# Altium schematic symbol library AudioPartLib.SchLib: 58 symbols
Pins are listed as number, name and electrical type; pins without a type are passive.

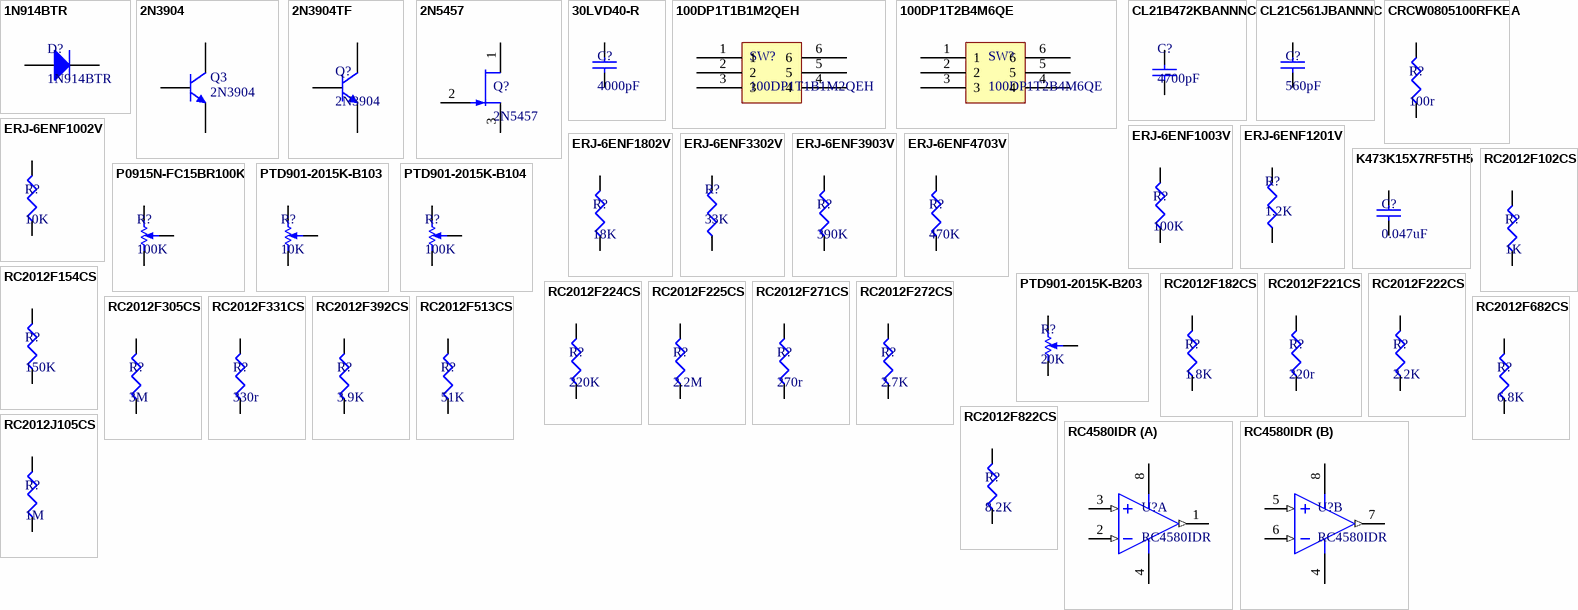
[diagram p0: symbols 1N914BTR to RC4580IDR]

## 1N914BTR
designator D?
DIODE GEN PURP 100V 200MA DO35; MFR: Fairchild-Semiconductor; Pin Count #: 2; Type: Throughhole Diode; Lead-Free ?: Yes; Designer: Adam Vadala-Roth; MFR #: 1N914BTR; Status: Active; Mounting: SMT/SMD; Datasheet: https://www.fairchildsemi.com/datasheets/1N/1N914.pdf; Height: 4mm; Tolerance: N/A; Cost: 0.009 @ 1000; Voltage: 100V; Date Created: 8 May 2016; Last Modified: 8 May 2016; Value: 1N914BTR
footprint DO-35 (Diode, Axial; Body 3.8 x 1.9 mm (LxDia. max), Lead Dia. 0.53 mm (max))
pins: 1 A, 2 K

## 2N3904
designator Q3
NPN General Purpose Amplifier; Published: 8-Jun-2000; LatestRevisionDate: 15-Jan-2003; LatestRevisionNote: PCB Footprint 'BCY-W3/D4.7' replaced; DatasheetVersion: 1997; PackageVersion: Sep-1998; PackageReference: TO-92A; Publisher: Altium Limited; PackageDescription: TO, Flat Index; 3 In-Line, Axial Leads; Body Dia. 4.5mm; Leads 0.51 x 0.48 mm (max); ComponentLink1Description: Manufacturer Link; ComponentLink1URL: http://www.fairchildsemi.com/; ComponentLink2Description: Datasheet; ComponentLink2URL: http://www.fairchildsemi.com/ds/2N%2F2N3904.pdf
footprint TO-92A (TO, Flat Index; 3 In-Line, Axial Leads; Body Dia. 4.5mm; Leads 0.51 x 0.48 mm (max))
simulation model 2N3904 (NPN)
signal-integrity model 2N3904
pins: 1 E, 2 B, 3 C

## 2N3904TF
designator Q?, comment 2N3904
TRANS NPN 40V 0.2A TO-92; MFR #: 2N3904TF; MFR: Fairchild-Semiconductor; Pin Count #: 2; Type: NPN Transistor; Lead-Free ?: Yes; Designer: Adam Vadala-Roth; Status: Active; Mounting: SMT/SMD; Datasheet: https://www.fairchildsemi.com/datasheets/MM/MMBT3904.pdf; Height: 5mm; Tolerance: N/A; Cost: 0.03468 @ 2000; Voltage: 40V; Date Created: 9 May 2016; Last Modified: 9 May 2016; Value: 2N3904
footprint TO-92A (TO, Flat Index; 3 In-Line, Axial Leads; Body Dia. 4.5mm; Leads 0.51 x 0.48 mm (max))
pins: 1 E, 2 B, 3 C

## 2N5457
designator Q?
JFET N-CH 25V 0.31W TO-92; MFR: Central-Semiconductor-Corp; Pin Count #: 3; Type: JFET Transistor; Lead-Free ?: Yes; Designer: Adam Vadala-Roth; MFR #: 2N5457; Status: Active; Mounting: Throughhole; Datasheet: http://www.centralsemi.com/PDFs/products/2N5457-5459.PDF; Height: 10mm; Tolerance: N/A; Cost: 1.13100 @ 1000; Voltage: 25V; Date Created: 10 May 2016; Last Modified: 10 May 2016
footprint TO-92A (TO, Flat Index; 3 In-Line, Axial Leads; Body Dia. 4.5mm; Leads 0.51 x 0.48 mm (max))
pins: 1 D, 2 G, 3 S

## 30LVD40-R
designator C?, comment 4000pF
Ceramic Disc Capacitors .25LS 4000PF 300V 20%; MFR #: 30LVD40-R; MFR: Vishay Cera-Mite; Pin Count #: 2; Type: Ceramic Capacitor THroughhole; Lead-Free ?: Yes; Designer: Adam Vadala-Roth; Status: Active; Mounting: SMT/SMD; Datasheet: http://www.mouser.com/ds/2/427/30lv-239712.pdf; Height: 13.5mm; Tolerance: 20%; Cost: 0.855 @ 1000; Voltage: 300V; Date Created: 9 May 2016; Last Modified: 9 May 2016; Value: 4000pF
footprint 30LVD40-R (Ceramic Disc Capacitor Throughhole)
pins: 1, 2

## 100DP1T1B1M2QEH
designator SW?
SWITCH TOGGLE DPDT 5A 120V; MFR: E-Switch; Pin Count #: 6; Lead-Free ?: Yes; Designer: Adam Vadala-Roth; MFR #: 100DP1T1B1M2QEH; Status: Active; Mounting: Throughhole / PCB Vertical Mount; Datasheet: https://www.e-switch.com/system/asset/product_line/data_sheet/129/100.pdf; Height: 11mm; Tolerance: N/A; Cost: 1.65060 @ 1000; Type: Toggle Switch; Voltage: 120V; Date Created: 9 May 2016; Last Modified: 9 May 2016
footprint 100DP1T1B1M2QEH
pins: 1, 2, 3, 4, 5, 6

## 100DP1T2B4M6QE
designator SW?
SWITCH TOGGLE DPDT 5A 120V; MFR: E-Switch; Pin Count #: 6; Lead-Free ?: Yes; Designer: Adam Vadala-Roth; MFR #: 100DP1T2B4M6QE; Status: Active; Mounting: Through Hole; Datasheet: http://spec_sheets.e-switch.com/specs/T121043.pdf; Height: 11.43; Tolerance: N/A; Cost: 2.12800 @ 1000; Type: DPDT Toggle Switch 120V; Voltage: 120V; Date Created: 10 May 2016; Last Modified: 10 May 2016; Value: 100DP1T2B4M6QE
footprint 100DP1T2B4M6QE (100DP1T2B4M6QE DPDT Toggle Switch)
pins: 1, 2, 3, 4, 5, 6

## CL21B472KBANNNC
designator C?, comment 4700pF
4700pF ±10% 50V X7R Ceramic Capacitor -55°C ~ 125°C Surface Mount, MLCC 0805 (2012 Metric) 0.079" L x 0.049" W (2.00mm x 1.25mm); MFR #: CL21B472KBANNNC; MFR: Samsung-Electro-Mechanics-America,-Inc.; Pin Count #: 2; Type: Ceramic Capacitor Chip; Lead-Free ?: Yes; Voltage: 50VDC; Designer: Adam Vadala-Roth; Status: Active; Mounting: SMT/SMD; Datasheet: https://media.digikey.com/pdf/Data%20Sheets/Samsung%20PDFs/CL_Series_MLCC_ds.pdf; Height: 0.75mm; Tolerance: 10%; Cost: 0.01170 @ 1000; Date Created: 10 May 2016; Last Modified: 10 May 2016; Value: 4700pF
footprint C0805
pins: 1, 2

## CL21C561JBANNNC
designator C?, comment 560pF
560pF ±5% 50V C0G, NP0 Ceramic Capacitor -55°C ~ 125°C Surface Mount, MLCC 0805 (2012 Metric) 0.079" L x 0.049" W (2.00mm x 1.25mm; MFR #: CL21C561JBANNNC; MFR: Samsung-Electro-Mechanics-America,-Inc.; Pin Count #: 2; Type: Ceramic Capacitor 0805; Lead-Free ?: Yes; Designer: Adam Vadala-Roth; Status: Active; Mounting: SMT/SMD; Datasheet: http://www.samsungsem.com/kr/support/product-search/mlcc/__icsFiles/afieldfile/2015/06/03/CL21C561JBANNNC.pdf; Height: 0.75mm; Tolerance: 5%; Cost: 0.02574; Voltage: 50V; Date Created: 9 May 2016; Last Modified: 9 May 2016; Value: 560pF
footprint C0805
pins: 1, 2

## CRCW0805100RFKEA
designator R?, comment 100r
RES SMD 100 OHM 1% 1/8W 0805; MFR #: CRCW0805100RFKEA; MFR: Vishay-Dale; Pin Count #: 2; Lead-Free ?: Yes; Designer: Adam Vadala-Roth; Status: Active; Mounting: SMT/SMD; Datasheet: https://www.vishay.com/docs/20035/dcrcwe3.pdf; Height: 0.5mm; Tolerance: 1%; Cost: 0.00729 @ 1000; Type: Chip Resistor 0805; Voltage: 1/8W; Date Created: 9 May 2016; Last Modified: 9 May 2016; Value: 100r
footprint R0805
pins: 1, 2

## ERJ-6ENF1002V
designator R?, comment 10K
RES SMD 10K OHM 1% 1/8W 0805; MFR #: ERJ-6ENF1002V; MFR: Panasonic-Electronic-Components; Pin Count #: 2; Lead-Free ?: Yes; Designer: Adam Vadala-Roth; Status: Active; Mounting: SMT/SMD; Datasheet: http://industrial.panasonic.com/www-cgi/jvcr13pz.cgi?E+PZ+3+AOA0002+ERJ6ENF1002V+7+WW; Height: 0.7mm; Tolerance: 1%; Cost: 0.00729 @ 1000; Type: Chip Resistor 0805; Voltage: 1/8W; Date Created: 8 May 2016; Last Modified: 8 May 2016; Value: 10K
footprint R0805
pins: 1, 2

## ERJ-6ENF1003V
designator R?, comment 100K
RES SMD 100K OHM 1% 1/8W 0805; MFR #: ERJ-6ENF1003V; MFR: Panasonic-Electronic-Components; Pin Count #: 2; Lead-Free ?: Yes; Designer: Adam Vadala-Roth; Status: Active; Mounting: SMT/SMD; Datasheet: http://industrial.panasonic.com/www-cgi/jvcr13pz.cgi?E+PZ+3+AOA0002+ERJ6ENF1003V+7+WW; Height: 0.7mm; Tolerance: 1%; Cost: 0.00729 @ 1000; Type: Chip Resistor; Voltage: 1/8W; Date Created: 9 May 2016; Last Modified: 9 May 2016; Value: 100K
footprint R0805
pins: 1, 2

## ERJ-6ENF1201V
designator R?, comment 1.2K
RES SMD 1.2K OHM 1% 1/8W 0805; MFR #: ERJ-6ENF1201V; MFR: Panasonic-Electronic-Components; Pin Count #: 2; Lead-Free ?: Yes; Designer: Adam Vadala-Roth; Status: Active; Mounting: SMT/SMD; Datasheet: http://industrial.panasonic.com/www-cgi/jvcr13pz.cgi?E+PZ+3+AOA0002+ERJ6ENF1201V+7+WW; Height: 0.7mm; Tolerance: 1%; Cost: 0.00729 @ 1000; Type: Chip Resistor 0805; Voltage: 1/8W; Date Created: 8 May 2016; Last Modified: 8 May 2016; Value: 1.2K
footprint R0805
pins: 1, 2

## ERJ-6ENF1802V
designator R?, comment 18K
RES SMD 18K OHM 1% 1/8W 0805; MFR #: ERJ-6ENF1802V; MFR: Panasonic-Electronic-Components; Pin Count #: 2; Lead-Free ?: Yes; Designer: Adam Vadala-Roth; Status: Active; Mounting: SMT/SMD; Datasheet: http://industrial.panasonic.com/www-cgi/jvcr13pz.cgi?E+PZ+3+AOA0002+ERJ6ENF1802V+7+WW; Height: 0.7mm; Tolerance: 1%; Cost: 0.00729 @ 1000; Type: Chip Resistor 0805; Voltage: 1/8W; Date Created: 8 May 2016; Last Modified: 8 May 2016; Value: 18K
footprint R0805
pins: 1, 2

## ERJ-6ENF3302V
designator R?, comment 33K
RES SMD 33K OHM 1% 1/8W 0805; MFR #: ERJ-6ENF3302V; MFR: Panasonic-Electronic-Components; Pin Count #: 2; Lead-Free ?: Yes; Designer: Adam Vadala-Roth; Status: Active; Mounting: SMT/SMD; Datasheet: http://industrial.panasonic.com/www-cgi/jvcr13pz.cgi?E+PZ+3+AOA0002+ERJ6ENF3302V+7+WW; Height: 0.7mm; Tolerance: 1%; Cost: 0.00729; Type: Chip Resistor 0805; Voltage: 1/8W; Date Created: 9 May 2016; Last Modified: 9 May 2016; Value: 33K
footprint R0805
pins: 1, 2

## ERJ-6ENF3903V
designator R?, comment 390K
RES SMD 390K OHM 1% 1/8W 0805; MFR #: ERJ-6ENF3903V; MFR: Panasonic-Electronic-Components; Pin Count #: 2; Lead-Free ?: Yes; Designer: Adam Vadala-Roth; Status: Active; Mounting: SMT/SMD; Datasheet: http://industrial.panasonic.com/www-cgi/jvcr13pz.cgi?E+PZ+3+AOA0002+ERJ6ENF3903V+7+WW; Height: 0.7mm; Tolerance: 1%; Cost: 0.00729 @ 1000; Type: Chip Resistor 0805; Voltage: 1/8W; Date Created: 8 May 2016; Last Modified: 8 May 2016; Value: 390K
footprint R0805
pins: 1, 2

## ERJ-6ENF4703V
designator R?, comment 470K
RES SMD 470K OHM 1% 1/8W 0805; MFR #: ERJ-6ENF4703V; MFR: Panasonic-Electronic-Components; Pin Count #: 2; Lead-Free ?: Yes; Designer: Adam Vadala-Roth; Status: Active; Mounting: SMT/SMD; Datasheet: http://industrial.panasonic.com/www-cgi/jvcr13pz.cgi?E+PZ+3+AOA0002+ERJ6ENF4703V+7+WW; Height: 0.7mm; Tolerance: 1%; Cost: 0.00729	 @ 1000; Type: Chip Resistor 0805; Voltage: 1/8W; Date Created: 9 May 2016; Last Modified: 9 May 2016; Value: 470K
footprint R0805
pins: 1, 2

## K473K15X7RF5TH5
designator C?, comment 0.047uF
0.047µF ±10% 50V X7R Ceramic Capacitor -55°C ~ 125°C Through Hole Radial 0.157" L x 0.098" W (4.00mm x 2.50mm); MFR #: K473K15X7RF5TH5; MFR: Vishay BC Components; Pin Count #: 2; Type: Ceramic dipped Capacitor K series 5mm lead spacing; Lead-Free ?: Yes; Designer: Adam Vadala-Roth; Status: Active; Mounting: Through Hole; Datasheet: http://www.vishay.com/docs/45171/kseries.pdf; Height: 6.54mm; Tolerance: 10%; Cost: 0.04692 @ 1000; Voltage: 50V; Date Created: 11 May 2016; Last Modified: 11 May 2016; Value: 0.047uF
footprint K473K15X7RF5TH5 (K473K15X7RF5TH5 Dipped Ceramic Cap VIshay BC Components)
pins: 1, 2

## P0915N-FC15BR100K
designator R?, comment 100K
POT 100K OHM 1/20W PLASTIC LIN; MFR #: P0915N-FC15BR100K; MFR: TT-Electronics-BI; Pin Count #: 2; Tolerance: 1%; Lead-Free ?: Yes; Designer: Adam Vadala-Roth; Status: Active; Mounting: SMT/SMD; Datasheet: http://www.bitechnologies.com/pdfs/p09x.pdf; Height: 22.6mm; Cost: 0.50540 @ 1000; Type: Potentiometer PCB Mounted Vertical; Voltage: 1/20W; Date Created: 9 May 2016; Last Modified: 9 May 2016; Value: 100K
footprint P0915N-FC15BR100K (Vertical PCB Mounted Potentiometer Single Gang)
pins: 1, 2, 3

## PTD901-2015K-B103
designator R?, comment 10K
POT 10K OHM 1/20W CARBON LINEAR; MFR #: PTD901-2015K-B103; MFR: Bourns Inc.; Pin Count #: 3; Tolerance: 20%; Lead-Free ?: Yes; Designer: Adam Vadala-Roth; Status: Active; Mounting: Through Hole; Datasheet: http://www.bourns.com/docs/Product-Datasheets/PTD90.pdf; Height: 11mm; Cost: 0.91800	 @ 1000; Type: Throughhole Potentiometer; Voltage: 1/20W; Date Created: 10 May 2016; Last Modified: 10 May 2016; Value: 10K
footprint BOURNS_PTD90SERIES_POT (Bourns Inc PTD90 Series Potentiometers, throughhole right angle PCB MOunted)
pins: 1, 2, 3

## PTD901-2015K-B104
designator R?, comment 100K
POT 100K OHM 1/20W CARBON LINEAR; MFR #: PTD901-2015K-B104; MFR: Bourns Inc.; Pin Count #: 3; Tolerance: 20%; Lead-Free ?: Yes; Designer: Adam Vadala-Roth; Status: Active; Mounting: Through Hole; Datasheet: http://www.bourns.com/docs/Product-Datasheets/PTD90.pdf; Height: 11mm; Cost: 0.91800	 @ 1000; Type: Throughhole Potentiometer; Voltage: 1/20W; Date Created: 10 May 2016; Last Modified: 10 May 2016; Value: 100K
footprint BOURNS_PTD90SERIES_POT (Bourns Inc PTD90 Series Potentiometers, throughhole right angle PCB MOunted)
pins: 1, 2, 3

## PTD901-2015K-B203
designator R?, comment 20K
POT 20K OHM 1/20W CARBON LINEAR; MFR #: PTD901-2015K-B203; MFR: Bourns Inc.; Pin Count #: 3; Tolerance: 20%; Lead-Free ?: Yes; Designer: Adam Vadala-Roth; Status: Active; Mounting: Through Hole; Datasheet: http://www.bourns.com/docs/Product-Datasheets/PTD90.pdf; Height: 11mm; Cost: 0.91800	 @ 1000; Type: Throughhole Potentiometer; Voltage: 1/20W; Date Created: 10 May 2016; Last Modified: 10 May 2016; Value: 20K
footprint BOURNS_PTD90SERIES_POT (Bourns Inc PTD90 Series Potentiometers, throughhole right angle PCB MOunted)
pins: 1, 2, 3

## RC2012F102CS
designator R?, comment 1K
RES SMD 1K OHM 1% 1/8W 0805; MFR #: RC2012F102CS; MFR: Samsung-Electro-Mechanics-America,-Inc.; Pin Count #: 2; Lead-Free ?: Yes; Designer: Adam Vadala-Roth; Status: Active; Mounting: SMT/SMD; Datasheet: https://media.digikey.com/pdf/Data%20Sheets/Samsung%20PDFs/RC_Series_ds.pdf; Height: 0.6mm; Tolerance: 1%; Cost: 0.00408	 @ 1000; Type: Chip Resistor; Voltage: 1/8W; Date Created: 10 May 2016; Last Modified: 10 May 2016; Value: 1K
footprint R0805
pins: 1, 2

## RC2012F154CS
designator R?, comment 150K
RES SMD 150K OHM 1% 1/8W 0805; MFR #: RC2012F154CS; MFR: Samsung-Electro-Mechanics-America,-Inc.; Pin Count #: 2; Lead-Free ?: Yes; Designer: Adam Vadala-Roth; Status: Active; Mounting: SMT/SMD; Datasheet: https://media.digikey.com/pdf/Data%20Sheets/Samsung%20PDFs/RC_Series_ds.pdf; Height: 0.6mm; Tolerance: 1%; Cost: 0.00408 @ 10000; Type: Chip Resistor; Voltage: 1/8W; Date Created: 8 May 2016; Last Modified: 8 May 2016; Value: 150K
footprint R0805
pins: 1, 2

## RC2012F182CS
designator R?, comment 1.8K
RES SMD 1.8K OHM 1% 1/8W 0805; MFR #: RC2012F182CS; MFR: Samsung-Electro-Mechanics-America,-Inc.; Pin Count #: 2; Lead-Free ?: Yes; Designer: Adam Vadala-Roth; Status: Active; Mounting: SMT/SMD; Datasheet: https://media.digikey.com/pdf/Data%20Sheets/Samsung%20PDFs/RC_Series_ds.pdf; Height: 0.60mm; Tolerance: 1%; Cost: 0.00408 @ 1000; Type: Chip Resistor 0805; Voltage: 1/8W; Date Created: 10 May 2016; Last Modified: 10 May 2016; Value: 1.8K
footprint R0805
pins: 1, 2

## RC2012F221CS
designator R?, comment 220r
RES SMD 220 OHM 1% 1/8W 0805; MFR #: RC2012F221CS; MFR: Samsung-Electro-Mechanics-America,-Inc.; Pin Count #: 2; Tolerance: 5%; Lead-Free ?: Yes; Designer: Adam Vadala-Roth; Status: Active; Mounting: SMT/SMD; Datasheet: https://media.digikey.com/pdf/Data%20Sheets/Samsung%20PDFs/RC_Series_ds.pdf; Height: 0.60mm; Cost: 0.00408	 @ 1000; Type: Chip Resistor 0805; Voltage: 1/8W; Date Created: 11 May 2016; Last Modified: 11 May 2016; Value: 220r
footprint R0805
pins: 1, 2

## RC2012F222CS
designator R?, comment 2.2K
RES SMD 2.2K OHM 1% 1/8W 0805; MFR #: RC2012F222CS; MFR: Samsung-Electro-Mechanics-America,-Inc.; Pin Count #: 2; Lead-Free ?: Yes; Designer: Adam Vadala-Roth; Status: Active; Mounting: SMT/SMD; Datasheet: https://media.digikey.com/pdf/Data%20Sheets/Samsung%20PDFs/RC_Series_ds.pdf; Height: 0.60mm; Tolerance: 1%; Cost: 0.00182	 @ 1000; Type: Chip Resistor 0805; Voltage: 1/8W; Date Created: 10 May 2016; Last Modified: 10 May 2016; Value: 2.2K
footprint R0805
pins: 1, 2

## RC2012F224CS
designator R?, comment 220K
RES SMD 220K OHM 1% 1/8W 0805; MFR #: RC2012F224CS; MFR: Samsung-Electro-Mechanics-America,-Inc.; Pin Count #: 2; Lead-Free ?: Yes; Designer: Adam Vadala-Roth; Status: Active; Mounting: SMT/SMD; Datasheet: https://media.digikey.com/pdf/Data%20Sheets/Samsung%20PDFs/RC_Series_ds.pdf; Height: 0.60mm; Tolerance: 1%; Cost: 0.00266 @ 5000; Type: Chip Resistor 0805; Voltage: 1/8W; Date Created: 11 May 2016; Last Modified: 11 May 2016; Value: 220K
footprint R0805
pins: 1, 2

## RC2012F225CS
designator R?, comment 2.2M
RES SMD 2.2M OHM 1% 1/8W 0805; MFR #: RC2012F225CS; MFR: Samsung-Electro-Mechanics-America,-Inc.; Pin Count #: 2; Lead-Free ?: Yes; Designer: Adam Vadala-Roth; Status: Active; Mounting: SMT/SMD; Datasheet: https://media.digikey.com/pdf/Data%20Sheets/Samsung%20PDFs/RC_Series_ds.pdf; Height: 0.60mm; Tolerance: 1%; Cost: 0.00289 @ 5000; Type: Chip Resistor 0805; Voltage: 1/8W; Date Created: 10 May 2016; Last Modified: 10 May 2016; Value: 2.2M
footprint R0805
pins: 1, 2

## RC2012F271CS
designator R?, comment 270r
RES SMD 270 OHM 1% 1/8W 0805; MFR #: RC2012F271CS; MFR: Samsung-Electro-Mechanics-America,-Inc.; Pin Count #: 2; Lead-Free ?: Yes; Designer: Adam Vadala-Roth; Status: Active; Mounting: SMT/SMD; Datasheet: https://media.digikey.com/pdf/Data%20Sheets/Samsung%20PDFs/RC_Series_ds.pdf; Height: 0.60mm; Tolerance: 1%; Cost: 0.00408 @ 1000; Type: Chip Resistor 0805; Voltage: 1/8W; Date Created: 10 May 2016; Last Modified: 10 May 2016; Value: 270r
footprint R0805
pins: 1, 2

## RC2012F272CS
designator R?, comment 2.7K
RES SMD 2.7K OHM 1% 1/8W 0805; MFR #: RC2012F272CS; MFR: Samsung-Electro-Mechanics-America,-Inc.; Pin Count #: 2; Lead-Free ?: Yes; Designer: Adam Vadala-Roth; Status: Active; Mounting: SMT/SMD; Datasheet: https://media.digikey.com/pdf/Data%20Sheets/Samsung%20PDFs/RC_Series_ds.pdf; Height: 0.6mm; Tolerance: 1%; Cost: 0.004080 @ 1000; Type: Chip Resistor 0805; Voltage: 1/8W; Date Created: 8 May 2016; Last Modified: 8 May 2016; Value: 2.7K
footprint R0805
pins: 1, 2

## RC2012F305CS
designator R?, comment 3M
RES SMD 3M OHM 1% 1/8W 0805; MFR #: RC2012F305CS; MFR: Samsung-Electro-Mechanics-America,-Inc.; Pin Count #: 2; Lead-Free ?: Yes; Designer: Adam Vadala-Roth; Status: Active; Mounting: SMT/SMD; Datasheet: https://media.digikey.com/pdf/Data%20Sheets/Samsung%20PDFs/RC_Series_ds.pdf; Height: 0.60mm; Tolerance: 1%; Cost: 0.00408 @ 1000; Type: Chip Resistor 0805; Voltage: 1/8W; Date Created: 10 May 2016; Last Modified: 10 May 2016; Value: 3M
footprint R0805
pins: 1, 2

## RC2012F331CS
designator R?, comment 330r
RES SMD 330 OHM 1% 1/8W 0805; MFR #: RC2012F331CS; MFR: Samsung-Electro-Mechanics-America,-Inc.; Pin Count #: 2; Lead-Free ?: Yes; Designer: Adam Vadala-Roth; Status: Active; Mounting: SMT/SMD; Datasheet: https://media.digikey.com/pdf/Data%20Sheets/Samsung%20PDFs/RC_Series_ds.pdf; Height: 0.60mm; Tolerance: 1%; Cost: 0.00408 @ 1000; Type: Chip Resistor 0805; Voltage: 1/8W; Date Created: 10 May 2016; Last Modified: 10 May 2016; Value: 330r
footprint R0805
pins: 1, 2

## RC2012F392CS
designator R?, comment 3.9K
RES SMD 3.9K OHM 1% 1/8W 0805; MFR #: RC2012F392CS; MFR: Samsung-Electro-Mechanics-America,-Inc.; Pin Count #: 2; Lead-Free ?: Yes; Designer: Adam Vadala-Roth; Status: Active; Mounting: SMT/SMD; Datasheet: https://media.digikey.com/pdf/Data%20Sheets/Samsung%20PDFs/RC_Series_ds.pdf; Height: 0.6mm; Tolerance: 1%; Cost: 0.00408 @ 1000; Type: Chip Resistor 0805; Voltage: 1/8W; Date Created: 10 May 2016; Last Modified: 10 May 2016; Value: 3.9K
footprint R0805
pins: 1, 2

## RC2012F513CS
designator R?, comment 51K
RES SMD 51K OHM 1% 1/8W 0805; MFR #: RC2012F513CS; MFR: Samsung-Electro-Mechanics-America,-Inc.; Pin Count #: 2; Lead-Free ?: Yes; Designer: Adam Vadala-Roth; Status: Active; Mounting: SMT/SMD; Datasheet: https://media.digikey.com/pdf/Data%20Sheets/Samsung%20PDFs/RC_Series_ds.pdf; Height: 0.60mm; Tolerance: 1%; Cost: 0.00408 @ 1000; Type: Chip Resistor 0805; Voltage: 1/8W; Date Created: 10 May 2016; Last Modified: 10 May 2016; Value: 51K
footprint R0805
pins: 1, 2

## RC2012F682CS
designator R?, comment 6.8K
RES SMD 6.8K OHM 1% 1/8W 0805; MFR #: RC2012F682CS; MFR: Samsung-Electro-Mechanics-America,-Inc.; Pin Count #: 2; Lead-Free ?: Yes; Designer: Adam Vadala-Roth; Status: Active; Mounting: SMT/SMD; Datasheet: https://media.digikey.com/pdf/Data%20Sheets/Samsung%20PDFs/RC_Series_ds.pdf; Height: 0.60mm; Tolerance: 1%; Cost: 0.00408 @ 1000; Type: Chip Resistor 0805; Voltage: 1/8W; Date Created: 10 May 2016; Last Modified: 10 May 2016; Value: 6.8K
footprint R0805
pins: 1, 2

## RC2012F822CS
designator R?, comment 8.2K
RES SMD 8.2K OHM 1% 1/8W 0805; MFR #: RC2012F822CS; MFR: Samsung-Electro-Mechanics-America,-Inc.; Pin Count #: 2; Lead-Free ?: Yes; Designer: Adam Vadala-Roth; Status: Active; Mounting: SMT/SMD; Datasheet: https://media.digikey.com/pdf/Data%20Sheets/Samsung%20PDFs/RC_Series_ds.pdf; Height: 0.6mm; Tolerance: 1%; Cost: 0.00408 @ 1000; Type: Chip Resistor; Voltage: 1/8W; Date Created: 9 May 2016; Last Modified: 9 May 2016; Value: 8.2K
footprint R0805
pins: 1, 2

## RC2012J105CS
designator R?, comment 1M
RES SMD 1M OHM 5% 1/8W 0805; MFR #: RC2012J105CS; MFR: Samsung-Electro-Mechanics-America,-Inc.; Pin Count #: 2; Lead-Free ?: Yes; Designer: Adam Vadala-Roth; Status: Active; Mounting: SMT/SMD; Datasheet: https://media.digikey.com/pdf/Data%20Sheets/Samsung%20PDFs/RC_Series_ds.pdf; Height: 0.60mm; Tolerance: 5%; Cost: 0.00379	 @ 1000; Type: Chip Resistor 0805; Voltage: 1/8W; Date Created: 10 May 2016; Last Modified: 10 May 2016; Value: 1M
footprint R0805
pins: 1, 2

## RC4580IDR
designator U?
IC OPAMP AUDIO 12MHZ 8SOIC Low Noise, High Performance, High Fidelity Dual Audio Operational Amplifier, 8-pin Narrow SOIC; MFR: Texas Instruments; Pin Count #: 8; Lead-Free ?: Yes; Voltage: 16V Max; Designer: Adam Vadala-Roth; MFR #: RC4580IDR; Status: Active; Mounting: SMT/SMD; Datasheet: http://www.ti.com/lit/ds/symlink/rc4580.pdf; Height: 1.2mm; Tolerance: N/A; Cost: 0.35000 @ 2500; Type: OPAMP IC, SOIC8 Package; Date Created: 10 May 2016; Last Modified: 10 May 2016
footprint SOIC127P600X175-8N (SOIC, 8-Leads, Body 4.75x3.90mm, Pitch 1.27mm, IPC Medium Density)
part A pins: 1 OUT A (out), 2 IN A (in), 3 IN A (in), 4 V- (power), 8 V+ (power)
part B pins: 4 V- (power), 5 IN B (in), 6 IN B (in), 7 OUT B (out), 8 V+ (power)

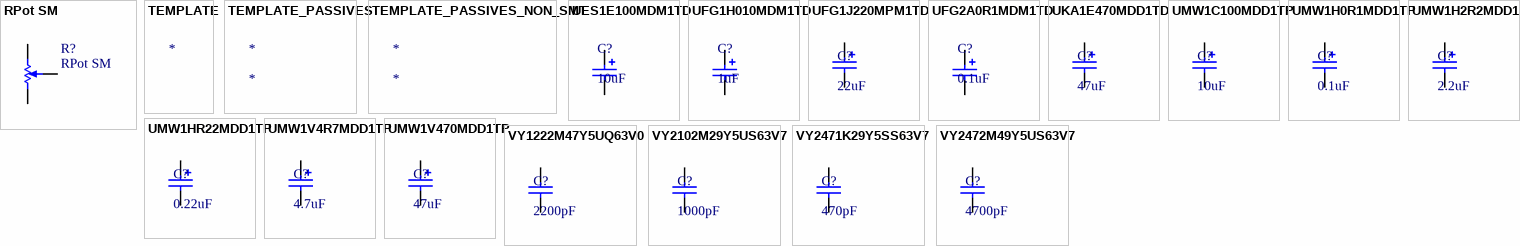
[diagram p1: symbols RPot SM to VY2472M49Y5US63V7]

## RPot SM
designator R?
Square Trimming Potentiometer; Published: 17-Dec-2003; DatasheetVersion: Oct-2003; PackageReference: POT4MM-2; Publisher: Altium Limited; PackageDescription: Square Trimming Potentiometer; ComponentLink1Description: Manufacturer Link; ComponentLink1URL: http://bourns.com/2/search.html
footprint POT4MM-2 (Square Trimming Potentiometer)
pins: CCW -, CW +, W
1 alternate drawing of the same symbol

## TEMPLATE
designator *
MFR #: *; MFR: *; Status: *; Pin Count #: *; Mounting: *; Datasheet: *; Height: *; Tolerance: *; Cost: *; Type: *; Lead-Free ?: *; Voltage: *; Date Created: *; Last Modified: *; Designer: *

## TEMPLATE_PASSIVES
designator *
Pin Count #: 2; Lead-Free ?: Yes; Designer: Adam Vadala-Roth; MFR #: *; MFR: *; Status: Active; Mounting: SMT/SMD; Datasheet: *; Height: *; Tolerance: *; Cost: *; Type: *; Voltage: *; Date Created: *; Last Modified: *; Value: *

## TEMPLATE_PASSIVES_NON_SMT
designator *
Pin Count #: 2; Lead-Free ?: Yes; Designer: Adam Vadala-Roth; MFR #: *; MFR: *; Status: Active; Mounting: Through Hole; Datasheet: *; Height: *; Tolerance: *; Cost: *; Type: *; Voltage: *; Date Created: *; Last Modified: *; Value: *

## UES1E100MDM1TD
designator C?, comment 10uF
CAP ALUM 10UF 20% 25V RADIAL; MFR #: UES1E100MDM1TD; MFR: Nichicon; Pin Count #: 2; Type: Aluminum Capacitor; Lead-Free ?: Yes; Designer: Adam Vadala-Roth; Status: Active; Mounting: SMT/SMD; Datasheet: http://nichicon-us.com/english/products/pdfs/e-ues.pdf; Height: 12.5mm; Tolerance: 20%; Cost: 0.16785 @ 1000; Voltage: 25V; Date Created: 10 May 2016; Last Modified: 10 May 2016; Value: 10uF
footprint 5X12.5mmCAP - GREEN
pins: 1, 2

## UFG1H010MDM1TD
designator C?, comment 1uF
CAP ALUM 1UF 20% 50V RADIAL; MFR #: UFG1H010MDM1TD; MFR: Nichicon; Pin Count #: 2; Type: Aluminum Capacitor Throughhole; Lead-Free ?: Yes; Designer: Adam Vadala-Roth; Status: Active; Mounting: SMT/SMD; Datasheet: http://nichicon-us.com/english/products/pdfs/e-ufg.pdf; Height: 12.5mm; Tolerance: 20%; Cost: 0.07403 @ 1000; Voltage: 50V; Date Created: 9 May 2016; Last Modified: 9 May 2016; Value: 1uF
footprint 5X12.5mmCAP - Gold
pins: 1, 2

## UFG1J220MPM1TD
designator C?, comment 22uF
CAP ALUM 22UF 20% 63V RADIAL; MFR #: UFG1J220MPM1TD; MFR: Nichicon; Pin Count #: 2; Type: Aluminum Capacitor Radial Through hole; Lead-Free ?: Yes; Designer: Adam Vadala-Roth; Status: Active; Mounting: Through Hole; Datasheet: http://nichicon-us.com/english/products/pdfs/e-ufg.pdf; Height: 13mm; Tolerance: 20%; Cost: 0.13872 @ 1000; Voltage: 63V; Date Created: 10 May 2016; Last Modified: 10 May 2016; Value: 22uF
footprint 8X13mmCAP
pins: 1, 2

## UFG2A0R1MDM1TD
designator C?, comment 0.1uF
CAP ALUM 0.1UF 20% 100V RADIAL; MFR #: UFG2A0R1MDM1TD; MFR: Nichicon; Pin Count #: 2; Type: Aluminum Capacitor Throughhole; Lead-Free ?: Yes; Designer: Adam Vadala-Roth; Status: Active; Mounting: SMT/SMD; Datasheet: http://nichicon-us.com/english/products/pdfs/e-ufg.pdf; Height: 12.5mm; Tolerance: 20%; Cost: 0.08413 @ @ 1000; Voltage: 100V; Date Created: 9 May 2016; Last Modified: 9 May 2016; Value: 0.1uF
footprint 5X12.5mmCAP
pins: 1, 2

## UKA1E470MDD1TD
designator C?, comment 47uF
CAP ALUM 47UF 20% 25V RADIAL; MFR #: UKA1E470MDD1TD; MFR: Nichicon; Pin Count #: 2; Type: Aluminum Capacitor Radial Through hole; Lead-Free ?: Yes; Designer: Adam Vadala-Roth; Status: Active; Mounting: Through Hole; Datasheet: http://nichicon-us.com/english/products/pdfs/e-ufg.pdf; Height: 13mm; Tolerance: 20%; Cost: 0.11360 @ 2000; Voltage: 25V; Date Created: 11 May 2016; Last Modified: 11 May 2016; Value: 47uF
footprint 5X12.5mmCAP - BLUE
pins: 1, 2

## UMW1C100MDD1TP
designator C?, comment 10uF
CAP ALUM 10UF 20% 16V RADIAL; MFR #: UMW1C100MDD1TP; MFR: Nichicon; Pin Count #: 2; Type: aluminum capacitor throughhole; Lead-Free ?: Yes; Designer: Adam Vadala-Roth; Status: Active; Mounting: Through hole; Datasheet: http://nichicon-us.com/english/products/pdfs/e-umw.pdf; Height: 6mm; Tolerance: 20%; Cost: 0.08766; Voltage: 16V; Date Created: 10 May 2016; Last Modified: 10 May 2016; Value: 10uF
footprint 4X6mmCAP
pins: 1, 2

## UMW1H0R1MDD1TP
designator C?, comment 0.1uF
CAP ALUM 0.1UF 20% 50V RADIAL; MFR #: UMW1H0R1MDD1TP; MFR: Nichion; Pin Count #: 2; Type: Aluminum Capacitor; Lead-Free ?: Yes; Designer: Adam Vadala-Roth; Status: Active; Mounting: Through Hole; Datasheet: http://nichicon-us.com/english/products/pdfs/e-umw.pdf; Height: 6mm; Tolerance: 20%; Cost: 0.08766 @ 1000; Voltage: 50V; Date Created: 10 May 2016; Last Modified: 10 May 2016; Value: 0.1uF
footprint 4X6mmCAP
pins: 1, 2

## UMW1H2R2MDD1TP
designator C?, comment 2.2uF
CAP ALUM 2.2UF 20% 50V RADIAL; MFR #: UMW1H2R2MDD1TP; MFR: Nichicon; Pin Count #: 2; Type: Aluminum Capacitor Radial Through Hole; Lead-Free ?: Yes; Designer: Adam Vadala-Roth; Status: Active; Mounting: Through Hole; Datasheet: http://nichicon-us.com/english/products/pdfs/e-umw.pdf; Height: 6mm; Tolerance: 20%; Cost: 0.08766; Voltage: 50V; Date Created: 10 May 2016; Last Modified: 10 May 2016; Value: 2.2uF
footprint 4X6mmCAP
pins: 1, 2

## UMW1HR22MDD1TP
designator C?, comment 0.22uF
CAP ALUM 0.22UF 20% 50V RADIAL; MFR #: UMW1HR22MDD1TP; MFR: Nichicon; Pin Count #: 2; Type: aluminum capacitor throughhole; Lead-Free ?: Yes; Designer: Adam Vadala-Roth; Status: Active; Mounting: Through hole; Datasheet: http://nichicon-us.com/english/products/pdfs/e-umw.pdf; Height: 6mm; Tolerance: 20%; Cost: 0.08766; Voltage: 50V; Date Created: 11 May 2016; Last Modified: 11 May 2016; Value: 0.22uF
footprint 4X6mmCAP
pins: 1, 2

## UMW1V4R7MDD1TP
designator C?, comment 4.7uF
CAP ALUM 4.7UF 20% 35V RADIAL; MFR #: UMW1V4R7MDD1TP; MFR: Nichicon; Pin Count #: 2; Type: Aluminum Capacitor RAdial throughole; Lead-Free ?: Yes; Designer: Adam Vadala-Roth; Status: Active; Mounting: Through Hole; Datasheet: http://nichicon-us.com/english/products/pdfs/e-umw.pdf; Height: 6mm; Tolerance: 20%; Cost: 0.08766 @ 1000; Voltage: 35V; Date Created: 10 May 2016; Last Modified: 10 May 2016; Value: 4.7uF
footprint 4X6mmCAP
pins: 1, 2

## UMW1V470MDD1TP
designator C?, comment 47uF
CAP ALUM 47UF 20% 35V RADIAL; MFR #: UFG1J220MPM1TD; MFR: Nichicon; Pin Count #: 2; Type: Aluminum Capacitor Radial Through hole; Lead-Free ?: Yes; Designer: Adam Vadala-Roth; Status: Active; Mounting: Through Hole; Datasheet: http://nichicon-us.com/english/products/pdfs/e-ufg.pdf; Height: 13mm; Tolerance: 20%; Cost: 0.12502 @ 1000; Voltage: 35V; Date Created: 11 May 2016; Last Modified: 11 May 2016; Value: 47uF
footprint 8X6mmCAP
pins: 1, 2

## VY1222M47Y5UQ63V0
designator C?, comment 2200pF
2200pF ±20% 760VAC Y5U (E) Ceramic Capacitor -40°C ~ 125°C Through Hole Radial, Disc 0.472" Dia (12.00mm); MFR #: VY1222M47Y5UQ63V0; MFR: Vishay-BC-Components; Pin Count #: 2; Type: Ceramic Cap Throughhole Disc; Lead-Free ?: Yes; Designer: Adam Vadala-Roth; Status: Active; Mounting: Throughhole; Datasheet: http://www.vishay.com/docs/28537/vy1series.pdf; Height: 10mm; Tolerance: 20%; Cost: 0.11985	@ 1000; Voltage: 760VAC; Date Created: 11 May 2016; Last Modified: 11 May 2016; Value: 2200pF
footprint VY1222M47Y5UQ63V0 (VY1222M47Y5UQ63V0 Throughhole Disc Ceramic Capacitor)
pins: 1, 2

## VY2102M29Y5US63V7
designator C?, comment 1000pF
1000pF ±20% 440VAC Y5U (E) Ceramic Capacitor -40°C ~ 125°C Through Hole Radial, Disc 0.295" Dia (7.50mm); MFR #: VY2102M29Y5US63V7; MFR: Vishay-BC-Components; Pin Count #: 2; Type: Ceramic Capacitor Disc Throughhole; Lead-Free ?: Yes; Designer: Adam Vadala-Roth; Dgikey #: BC2354-ND; Status: Active; Mounting: SMT/SMD; Datasheet: http://www.vishay.com/docs/28535/vy2series.pdf; Height: 11.5mm; Tolerance: 20%; Cost: 0.07182; Voltage: 440VAC; Date Created: 10 May 2016; Last Modified: 10 May 2016; Value: 1000pF
footprint VY2102M29Y5US63V7
pins: 1, 2

## VY2471K29Y5SS63V7
designator C?, comment 470pF
470pF ±10% 440VAC Y5S Ceramic Capacitor -40°C ~ 125°C Through Hole Radial, Disc 0.295" Dia (7.50mm); MFR #: VY2471K29Y5SS63V7; MFR: Vishay-BC-Components; Pin Count #: 2; Type: Ceramic Cap Throughhole Disc; Lead-Free ?: Yes; Designer: Adam Vadala-Roth; Status: Active; Mounting: SMT/SMD; Datasheet: http://www.vishay.com/docs/28535/vy2series.pdf; Height: 11.5mm; Tolerance: 10%; Cost: 0.07182 @ 1000; Voltage: 440VAC; Date Created: 10 May 2016; Last Modified: 10 May 2016; Value: 470pF
footprint VY2471K29Y5SS63V7 (VY2471K29Y5SS63V7 Ceranic Disc Throughole Cap)
pins: 1, 2

## VY2472M49Y5US63V7
designator C?, comment 4700pF
4700pF ±20% 440VAC Y5U (E) Ceramic Capacitor -40°C ~ 125°C Through Hole Radial, Disc 0.492" Dia (12.50mm); MFR #: VY2472M49Y5US63V7; MFR: Vishay-BC-Components; Pin Count #: 2; Type: Ceramic Capacitor Throughole Disc; Lead-Free ?: Yes; Designer: Adam Vadala-Roth; Status: Active; Mounting: SMT/SMD; Datasheet: http://www.vishay.com/docs/28535/vy2series.pdf; Height: 16.5mm; Tolerance: 20%; Cost: 0.10697 @ 1000; Voltage: 440VAC; Date Created: 10 May 2016; Last Modified: 10 May 2016; Value: 4700pF; Digikey #: BC2359-ND
footprint VY2472M49Y5US63V7
pins: 1, 2